# EAGLE library part LM25119_RTV_32 (library custom)
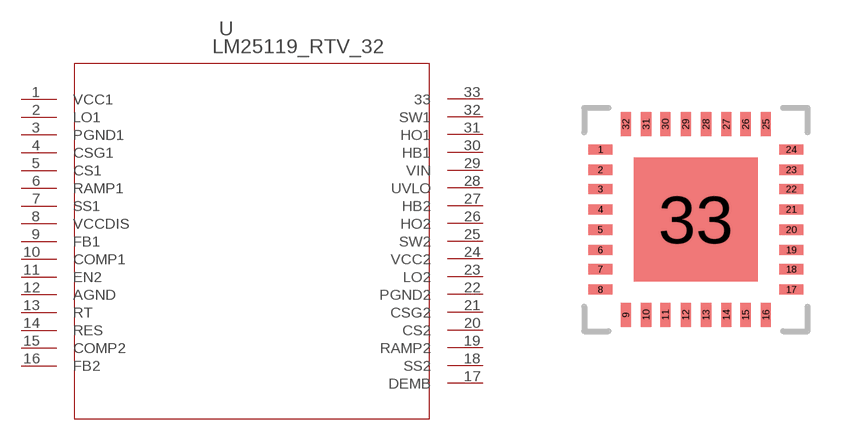
[diagram p5: symbol with the pads of SQA32A; footprint SQA32A]

Designator prefix U

## LM25119_RTV_32 (BASEPN: LM25119; DATASHEETURL: http://www.ti.com/lit/ds/symlink/lm25119.pdf; DESCRIPTION: Wide Input Range Dual Synchronous Buck Controller; MANUFACTURER: Texas Instruments; MANUFACTURER_PART_NUMBER: lm25119_rtv_32; NSC_PACKAGEREFERENCE: SQA32A; VENDOR: Texas Instruments)  [SQA32A]
1  VCC1  pwr
2  LO1  out
3  PGND1  pwr
4  CSG1  pas
5  CS1  in
6  RAMP1  pas
7  SS1  pas
8  VCCDIS  pwr
9  FB1  in
10  COMP1  out
11  EN2  pas
12  AGND  pwr
13  RT  pas
14  RES  pas
15  COMP2  out
16  FB2  in
17  DEMB  in
18  SS2  pas
19  RAMP2  pas
20  CS2  in
21  CSG2  pas
22  PGND2  pwr
23  LO2  out
24  VCC2  pwr
25  SW2  pas
26  HO2  out
27  HB2  pas
28  UVLO  pas
29  VIN  in
30  HB1  pas
31  HO1  out
32  SW1  pas
33  33  pas

## Footprint SQA32A (pad centres in mm)
smd 0.61 x 0.254: 1 -2.388,1.753; 2 -2.388,1.245; 3 -2.388,0.762; 4 -2.388,0.254; 5 -2.388,-0.254; 6 -2.388,-0.762; 7 -2.388,-1.245; 8 -2.388,-1.753; 17 2.388,-1.753; 18 2.388,-1.245; 19 2.388,-0.762; 20 2.388,-0.254; 21 2.388,0.254; 22 2.388,0.762; 23 2.388,1.245; 24 2.388,1.753
smd 0.254 x 0.61: 9 -1.753,-2.388; 10 -1.245,-2.388; 11 -0.762,-2.388; 12 -0.254,-2.388; 13 0.254,-2.388; 14 0.762,-2.388; 15 1.245,-2.388; 16 1.753,-2.388; 25 1.753,2.388; 26 1.245,2.388; 27 0.762,2.388; 28 0.254,2.388; 29 -0.254,2.388; 30 -0.762,2.388; 31 -1.245,2.388; 32 -1.753,2.388
smd 3.099 x 3.099: 33 0,0